# Altium schematic symbol library Molex_39_28_1083.SchLib: 1 symbol
Pins are listed as number, name and electrical type; pins without a type are passive.

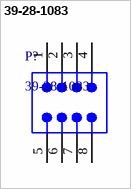
[diagram p0: symbol 39-28-1083]

## 39-28-1083
designator P?
4.2 mm Pitch Mini-Fit Jr.Power Connector, Vertical, Through Hole, 8 Circuits, -40 to 105 degC, RoHS, Bag; No. of Positions: 8; Pitch: 4.2 mm; No. of Rows: 2; ComponentLink1Description: Manufacturer URL; ComponentLink2Description: Datasheet; Orientation: Vertical; PartNumber: 39-28-1083; ComponentLink3Description: Package Specification; Mounting Technology: Surface Mount; ComponentLink3URL: http://www.molex.com/pdm_docs/sd/039281083_sd.pdf; ComponentLink1URL: http://www.molex.com/; Temperature Min: -40 degC; Packing: Bag; PackageVersion: Rev. F, 06/2009; PackageDescription: 8-Pin PCB Header, Vertical, Pitch 4.2 mm, Through Hole; ComponentLink2URL: http://www.molex.com/webdocs/datasheets/pdf/en-us/0039281083_PCB_HEADERS.pdf; RoHS: TRUE; Temperature Max: 105 degC
footprint MOLX-39-28-1083_V
pins: 1, 2, 3, 4, 5, 6, 7, 8